# Altium schematic symbol library MICREL MIC2296 8PIN.SchLib: 1 symbol
Pins are listed as number, name and electrical type; pins without a type are passive.

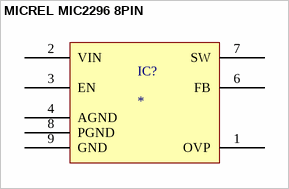
[diagram p0: symbol MICREL MIC2296 8PIN]

## MICREL MIC2296 8PIN
designator IC?
pins: 1 OVP, 2 VIN, 3 EN, 4 AGND, 6 FB, 7 SW, 8 PGND, 9 GND